# EAGLE library part 53261-0771 (library picoblade_8P)
7 way SMT r/a header Molex PICOBLADE Series, Series Number 53261, 1.25mm Pitch 7 Way 1 Row Shrouded Right Angle PCB Header, Surface Mount Source: Datasheet
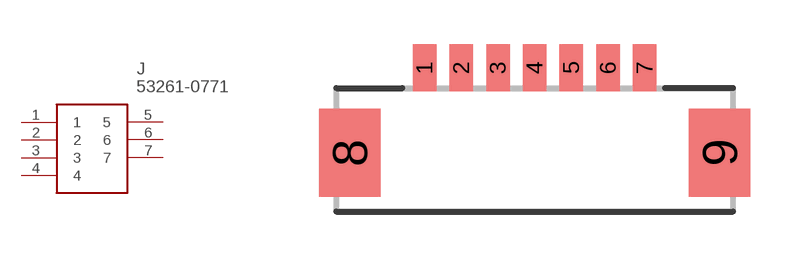
[diagram p1: symbol with the pads of 53261-0771; footprint 53261-0771]

Designator prefix J

## 53261-0771 (DESCRIPTION: 7 way SMT r/a header Molex PICOBLADE Series, Series Number 53261, 1.25mm Pitch 7 Way 1 Row Shrouded Right Angle PCB Header, Surface Mount; HEIGHT: mm; MANUFACTURER_NAME: Molex; MANUFACTURER_PART_NUMBER: 53261-0771; MOUSER_PART_NUMBER: 538-53261-0771; MOUSER_PRICE-STOCK: https://www.mouser.co.uk/ProductDetail/Molex/53261-0771?qs=%252B72YyncTwW%252BxLIB5xaXbBA%3D%3D)  [53261-0771]
1  1
2  2
3  3
4  4
5  5
6  6
7  7

## Footprint 53261-0771 (pad centres in mm)
53261-0771
smd 0.8 x 1.6: 1 -3.75,0.7; 2 -2.5,0.7; 3 -1.25,0.7; 4 0,0.7; 5 1.25,0.7; 6 2.5,0.7; 7 3.75,0.7
smd 2.1 x 3: 8 -6.3,-2.2; 9 6.3,-2.2